# EAGLE library part LM2-12D (library SolarJackets)
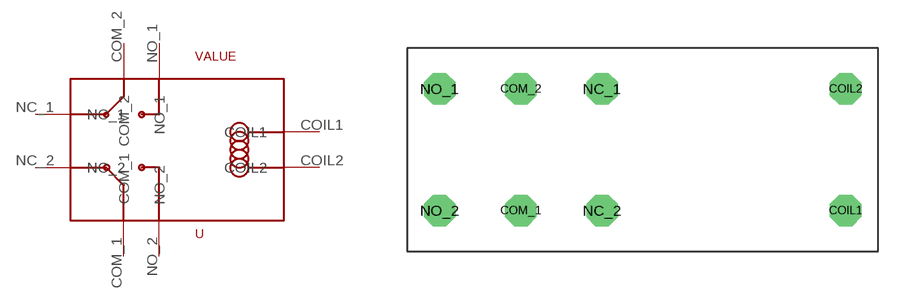
[diagram p0: symbol with the pads of LM2-12D; footprint LM2-12D]

Designator prefix -

## LM2-12D  [LM2-12D]
COIL1  COIL1
COIL2  COIL2
COM_1  COM_1
COM_2  COM_2
NC_1  NC_1
NC_2  NC_2
NO_1  NO_1
NO_2  NO_2

## Footprint LM2-12D (pad centres in mm)
drill 1.3 octagon: COIL1 27,2.5; COIL2 27,10; COM_1 7,2.5; COM_2 7,10; NC_1 12,10; NC_2 12,2.5; NO_1 2,10; NO_2 2,2.5